# EAGLE library part LMC662 (library C8051F300)
LMC662 CMOS Dual Operational Amplifier
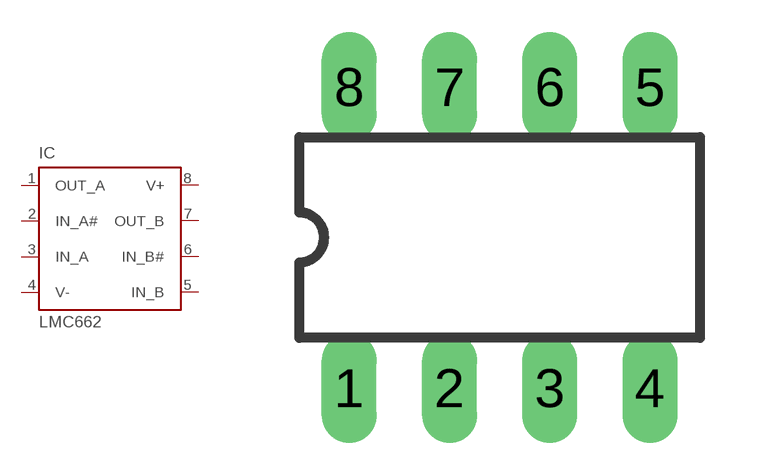
[diagram p10: symbol with the pads of DIL8; footprint DIL8]

Designator prefix IC

## LMC662CN  [DIL8]
1  OUT_A  out
2  IN_A#  in
3  IN_A  in
4  V-  pas
5  IN_B  in
6  IN_B#  in
7  OUT_B  out
8  V+  pas

## Footprint DIL8 (pad centres in mm)
drill 0.889 long: 1 -3.81,-3.81; 2 -1.27,-3.81; 3 1.27,-3.81; 4 3.81,-3.81; 5 3.81,3.81; 6 1.27,3.81; 7 -1.27,3.81; 8 -3.81,3.81